# Altium schematic symbol library Power_Measurement.SchLib: 3 symbols
Pins are listed as number, name and electrical type; pins without a type are passive.

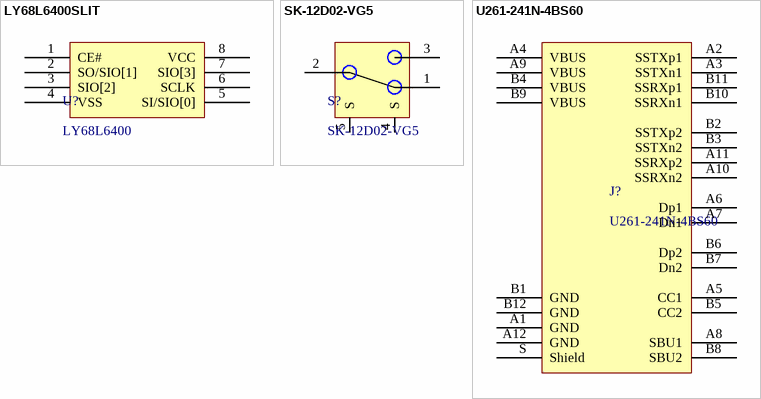
[diagram p0: symbols LY68L6400SLIT to U261-241N-4BS60]

## LY68L6400SLIT
designator U?, comment LY68L6400
64M Bits Serial Pseudo-SRAM with SPI and QPI
footprint SOP-8_3.9x4.9x1.27P (SOP, 8-Leads, Body 4.90x3.90mm, Pitch 1.27mm, IPC Medium Density)
pins: 1 CE#, 2 SO/SIO[1], 3 SIO[2], 4 VSS, 5 SI/SIO[0], 6 SCLK, 7 SIO[3], 8 VCC

## SK-12D02-VG5
designator S?
Lying SPDT 9.5mm PCPin 5000 Rectangular columnar -25℃~+70℃ Plugin Slide Switches ROHS SP#C136722
footprint SK-12D02-VG5 (SPDT Switch)
pins: 1, 2 C, 3, 4 S, 5 S

## U261-241N-4BS60
designator J?
5A USB 3.1 1 260℃ Board Edge, Straddle Mount 24 Male -40℃~+85℃ Gold Copper Alloy Type-C SMD USB Connectors ROHS
footprint USB Type-C Straddle Mount
pins: A1 GND, A2 SSTXp1, A3 SSTXn1, A4 VBUS, A5 CC1, A6 Dp1, A7 Dn1, A8 SBU1, A9 VBUS, A10 SSRXn2, A11 SSRXp2, A12 GND, B1 GND, B2 SSTXp2, B3 SSTXn2, B4 VBUS, B5 CC2, B6 Dp2, B7 Dn2, B8 SBU2, B9 VBUS, B10 SSRXn1, B11 SSRXp1, B12 GND, S Shield